# EAGLE library part 693010030601 (library Wurth_Elektronik_Electromechanic_Input-Output_Connectors_rev16a)
WR-CRD SIM CARD CONNECTOR HEADER SHIELDED W/O CARD STOP 6PINS=>Code : Con_I-O_COM_CRD_SIM_Mini_693010030601 <http://katalog.we-online.de/media/images/eican/Con_I-O_COM_CRD_SIM_Mini_693010030601_pf2.jpg> Details see: http://katalog.we-online.de/en/em/693_010_030_601 Created 2014-07-09, Karrer Zheng 2014 (C) Würth Elektronik
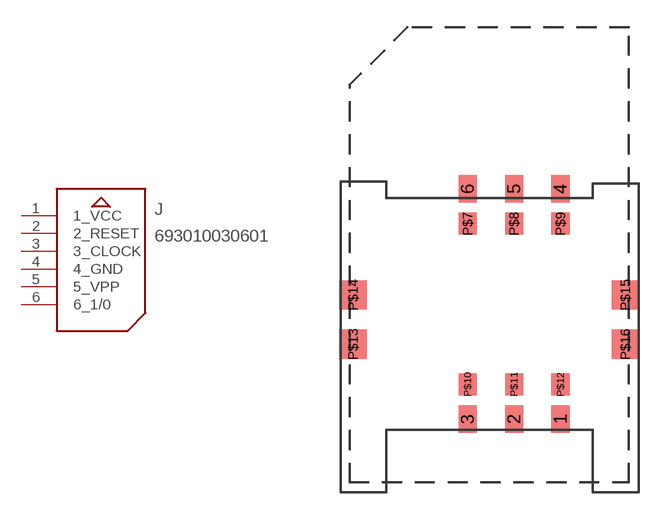
[diagram p91: symbol with the pads of 693010030601; footprint 693010030601]

Designator prefix J

## 693010030601  [693010030601]
1  1_VCC
2  2_RESET
3  3_CLOCK
4  4_GND
5  5_VPP
6  6_1/0

## Footprint 693010030601 (pad centres in mm)
WR-CRD SIM CARD CONNECTOR HEADER SHIELDED W/O CARD STOP 6 PINS
smd 1 x 1.5: 1 5.08,-12.6; 2 2.54,-12.6; 3 0,-12.6; 4 5.08,0; 5 2.54,0; 6 0,0
smd 1 x 1.2: P$7 0,-1.9; P$8 2.54,-1.9; P$9 5.08,-1.9; P$10 0,-10.7; P$11 2.54,-10.7; P$12 5.08,-10.7
smd 1.5 x 1.6: P$13 -6.27,-8.5; P$14 -6.27,-5.8; P$15 8.63,-5.8; P$16 8.63,-8.5